# Altium schematic symbol library 2SK301.SchLib: 1 symbol
Pins are listed as number, name and electrical type; pins without a type are passive.

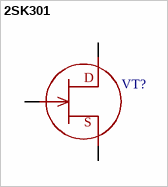
[diagram p0: symbol 2SK301]

## 2SK301
designator VT?
footprint TO-92
pins: 1 D, 1 B, 2 G, 3 S